# Altium integrated library ON Semi Signal Management IO Expanders.IntLib: 48 symbols (part 3 of 3)
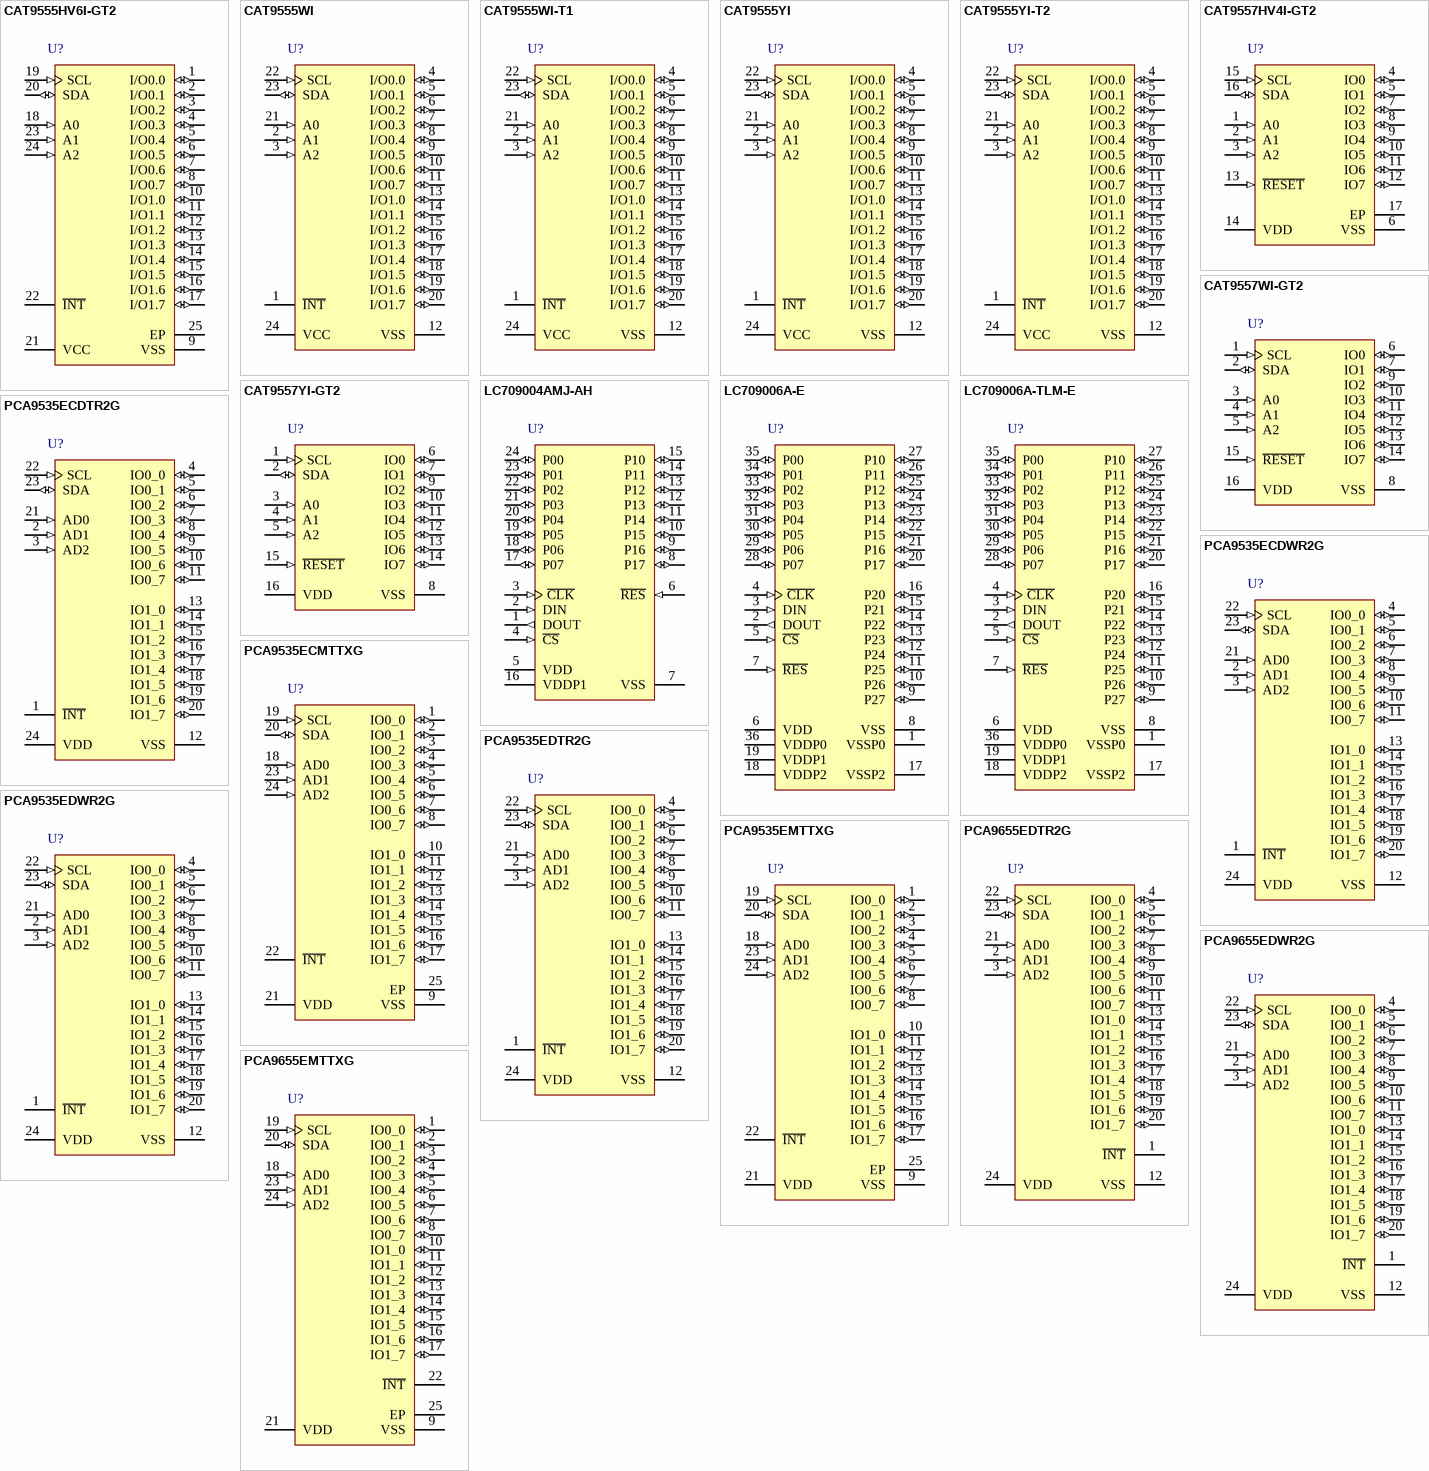
[diagram p3: symbols CAT9555HV6I-GT2 to PCA9655EMTTXG]

## PCA9655EDWR2G
designator U?
Remote 16-Bit I/O Expander for I2C Bus with Interrupt, 1.65 to 5.5 V, -55 to 125 degC, 24-Pin SOIC, Pb-Free, Tape and Reel; Manufacturer: On Semiconductor; PartNumber: PCA9655EDWR2G; I/O: 16; LED Blink/PWM: No; VCC Max (V): 5.5; VCC Min (V): 1.65; DatasheetVersion: Rev. 3; PackageVersion: Rev. F, 07/2012; PackageReference: SOIC-24-751E-04; PackageDescription: 24-Pin Small Outline Integrated Circuit, Body 15.4 x 7.5 mm, Pitch 1.27 mm; Supplier 1: Digi-Key; Supplier Part Number 1: PCA9655EDWR2GOSTR-ND; Supplier 2: Digi-Key; Supplier Part Number 2: PCA9655EDWR2GOSCT-ND; Supplier 3: Digi-Key; Supplier Part Number 3: PCA9655EDWR2GOSDKR-ND; Supplier 4: Mouser; Supplier Part Number 4: 863-PCA9655EDWR2G; Packing: Tape and Reel; RoHS: TRUE; Mounting Technology: Surface Mount; ComponentLink1Description: Manufacturer URL; ComponentLink1URL: http://www.onsemi.com/; ComponentLink2Description: Datasheet; ComponentLink2URL: http://www.onsemi.com/pub_link/Collateral/PCA9655E-D.PDF; ComponentLink3Description: Package Specification; ComponentLink3URL: http://www.onsemi.com/pub_link/Collateral/751E-04.PDF
footprint ONSC-SOIC-24-751E-04_V (SOIC, 24-Leads, Body 15.54x7.6mm, Pitch 1.27mm)
pins: 1 ~{INT} (oc) "Interrupt Output (active-LOW)", 2 AD1 (in) "Address Input 1", 3 AD2 (in) "Address Input 2", 4 IO0_0 (io) "Port 0 I/O 0", 5 IO0_1 (io) "Port 0 I/O 1", 6 IO0_2 (io) "Port 0 I/O 2", 7 IO0_3 (io) "Port 0 I/O 3", 8 IO0_4 (io) "Port 0 I/O 4", 9 IO0_5 (io) "Port 0 I/O 5", 10 IO0_6 (io) "Port 0 I/O 6", 11 IO0_7 (io) "Port 0 I/O 7", 12 VSS (power) "Supply Ground", 13 IO1_0 (io) "Port 1 I/O 0", 14 IO1_1 (io) "Port 1 I/O 1", 15 IO1_2 (io) "Port 1 I/O 2", 16 IO1_3 (io) "Port 1 I/O 3", 17 IO1_4 (io) "Port 1 I/O 4", 18 IO1_5 (io) "Port 1 I/O 5", 19 IO1_6 (io) "Port 1 I/O 6", 20 IO1_7 (io) "Port 1 I/O 7", 21 AD0 (in) "Address Input 0", 22 SCL (in) "Serial Clock Line", 23 SDA (io) "Serial Data Line", 24 VDD (power) "Supply Voltage"

## PCA9655EMTTXG
designator U?
Remote 16-Bit I/O Expander for I2C Bus with Interrupt, 1.65 to 5.5 V, -55 to 125 degC, 24-Pin WQFN, Pb-Free, Tape and Reel; Manufacturer: On Semiconductor; PartNumber: PCA9655EMTTXG; I/O: 16; LED Blink/PWM: No; VCC Max (V): 5.5; VCC Min (V): 1.65; DatasheetVersion: Rev. 3; PackageVersion: Rev. A, 04/2012; PackageReference: WQFN24-24-485BG; PackageDescription: 24-Pin Quad Flat No-Lead, Body 4 x 4 mm, Pitch 0.5 mm; Supplier 1: Digi-Key; Supplier Part Number 1: PCA9655EMTTXGOSTR-ND; Supplier 2: Digi-Key; Supplier Part Number 2: PCA9655EMTTXGOSCT-ND; Supplier 3: Digi-Key; Supplier Part Number 3: PCA9655EMTTXGOSDKR-ND; Supplier 4: Newark; Supplier Part Number 4: 40T5122; Supplier 5: Mouser; Supplier Part Number 5: 863-PCA9655EMTTXG; Packing: Tape and Reel; RoHS: TRUE; Mounting Technology: Surface Mount; ComponentLink1Description: Manufacturer URL; ComponentLink1URL: http://www.onsemi.com/; ComponentLink2Description: Datasheet; ComponentLink2URL: http://www.onsemi.com/pub_link/Collateral/PCA9655E-D.PDF; ComponentLink3Description: Package Specification; ComponentLink3URL: http://www.onsemi.com/pub_link/Collateral/485BG.PDF
footprint ONSC-WQFN24-24-485BG_V (QFN, 24-Leads, Body 4x4mm, Pitch 0.5mm, Thermal Pad 2.26x2.26mm)
pins: 1 IO0_0 (io) "Port 0 I/O 0", 2 IO0_1 (io) "Port 0 I/O 1", 3 IO0_2 (io) "Port 0 I/O 2", 4 IO0_3 (io) "Port 0 I/O 3", 5 IO0_4 (io) "Port 0 I/O 4", 6 IO0_5 (io) "Port 0 I/O 5", 7 IO0_6 (io) "Port 0 I/O 6", 8 IO0_7 (io) "Port 0 I/O 7", 9 VSS (power) "Supply Ground", 10 IO1_0 (io) "Port 1 I/O 0", 11 IO1_1 (io) "Port 1 I/O 1", 12 IO1_2 (io) "Port 1 I/O 2", 13 IO1_3 (io) "Port 1 I/O 3", 14 IO1_4 (io) "Port 1 I/O 4", 15 IO1_5 (io) "Port 1 I/O 5", 16 IO1_6 (io) "Port 1 I/O 6", 17 IO1_7 (io) "Port 1 I/O 7", 18 AD0 (in) "Address Input 0", 19 SCL (in) "Serial Clock Line", 20 SDA (io) "Serial Data Line", 21 VDD (power) "Supply Voltage", 22 ~{INT} (oc) "Interrupt Output (active-LOW)", 23 AD1 (in) "Address Input 1", 24 AD2 (in) "Address Input 2", 25 EP "The exposed thermal pad at the bottom is not connected to internal circuitry"